# Altium schematic symbol library conn_header_1.27mm_st.SchLib: 116 symbols
Pins are listed as number, name and electrical type; pins without a type are passive.

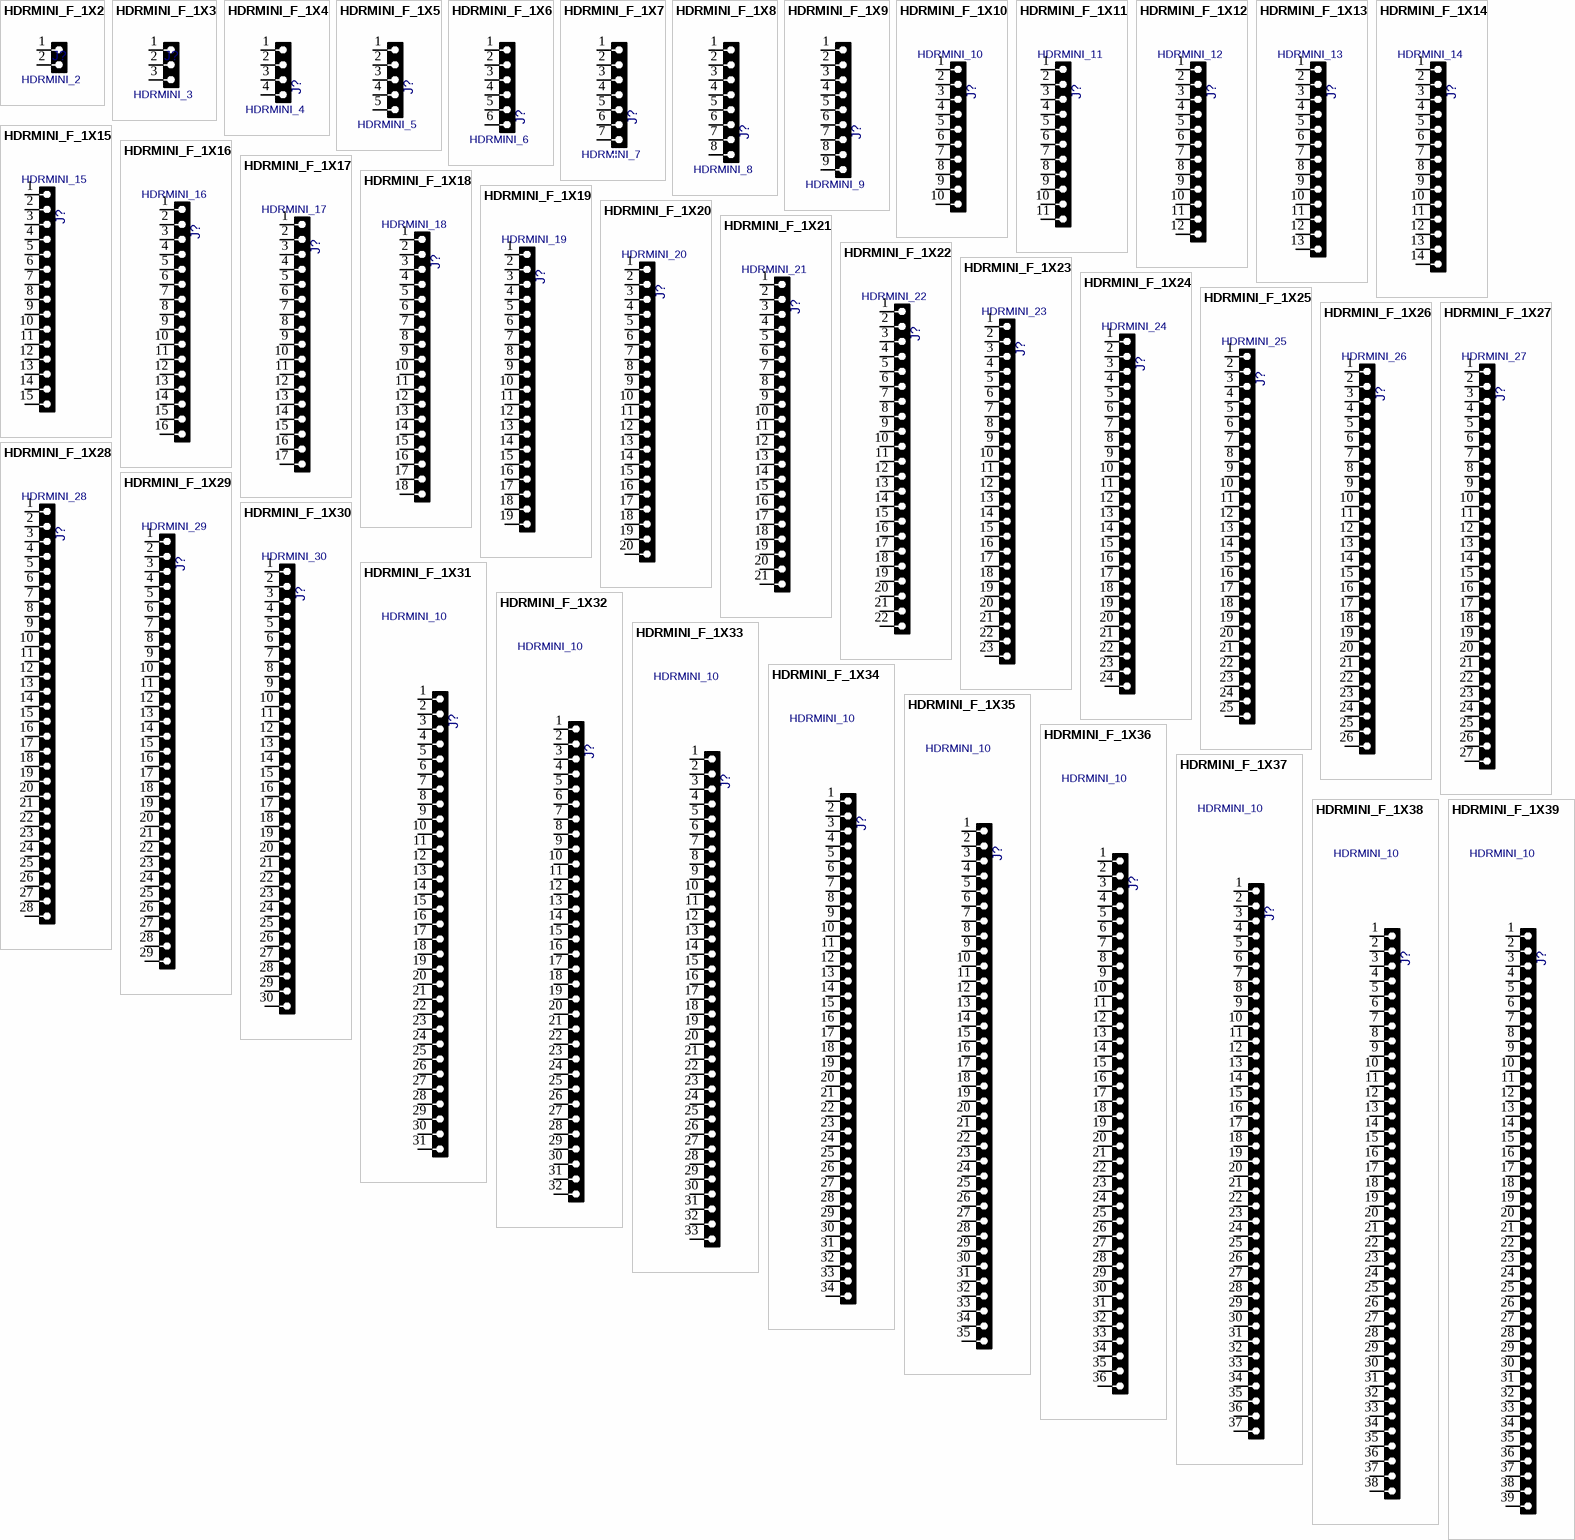
[diagram p0: symbols HDRMINI_F_1X2 to HDRMINI_F_1X39]

## HDRMINI_F_1X2
designator J?, comment HDRMINI_2
CONN, HEADER, Female, pitch: 1.27mm, 2POS; VALUE: HDRMINI_2
footprint HDRMINI_F_1X2 (mini header (50mil pitch))
pins: 1, 2

## HDRMINI_F_1X3
designator J?, comment HDRMINI_3
CONN, HEADER, Female, pitch: 1.27mm, 3POS; VALUE: HDRMINI_3
footprint HDRMINI_F_1X3 (mini header (50mil pitch))
pins: 1, 2, 3

## HDRMINI_F_1X4
designator J?, comment value HDRMINI_4  (hidden comment: HDR1X4)
CONN, HEADER, Female, pitch: 1.27mm, 4POS
footprint HDRMINI_F_1X4 (mini header (50mil pitch))
pins: 1, 2, 3, 4

## HDRMINI_F_1X5
designator J?, comment value HDRMINI_5  (hidden comment: HDR1X5)
CONN, HEADER, Female, pitch: 1.27mm, 5POS
footprint HDRMINI_F_1X5 (mini header (50mil pitch))
pins: 1, 2, 3, 4, 5

## HDRMINI_F_1X6
designator J?, comment value HDRMINI_6  (hidden comment: HDR1X6)
CONN, HEADER, Female, pitch: 1.27mm, 6POS
footprint HDRMINI_F_1X6 (mini header (50mil pitch))
pins: 1, 2, 3, 4, 5, 6

## HDRMINI_F_1X7
designator J?, comment value HDRMINI_7  (hidden comment: HDR1X7)
CONN, HEADER, Female, pitch: 1.27mm, 7POS
footprint HDRMINI_F_1X7 (mini header (50mil pitch))
pins: 1, 2, 3, 4, 5, 6, 7

## HDRMINI_F_1X8
designator J?, comment value HDRMINI_8  (hidden comment: HDR1X8)
CONN, HEADER, Female, pitch: 1.27mm, 8POS
footprint HDRMINI_F_1X8 (mini header (50mil pitch))
pins: 1, 2, 3, 4, 5, 6, 7, 8

## HDRMINI_F_1X9
designator J?, comment value HDRMINI_9  (hidden comment: HDR1X9)
CONN, HEADER, Female, pitch: 1.27mm, 9POS
footprint HDRMINI_F_1X9 (mini header (50mil pitch))
pins: 1, 2, 3, 4, 5, 6, 7, 8, 9

## HDRMINI_F_1X10
designator J?, comment value HDRMINI_10  (hidden comment: HDR1X10)
CONN, HEADER, Female, pitch: 1.27mm
footprint HDRMINI_F_1X10 (mini header (50mil pitch))
pins: 1, 2, 3, 4, 5, 6, 7, 8, 9, 10

## HDRMINI_F_1X11
designator J?, comment value HDRMINI_11  (hidden comment: HDR1X10)
CONN, HEADER, Female, pitch: 1.27mm
footprint HDRMINI_F_1X11 (mini header (50mil pitch))
pins: 1, 2, 3, 4, 5, 6, 7, 8, 9, 10, 11

## HDRMINI_F_1X12
designator J?, comment value HDRMINI_12  (hidden comment: HDR1X10)
CONN, HEADER, Female, pitch: 1.27mm
footprint HDRMINI_F_1X12 (mini header (50mil pitch))
pins: 1, 2, 3, 4, 5, 6, 7, 8, 9, 10, 11, 12

## HDRMINI_F_1X13
designator J?, comment value HDRMINI_13  (hidden comment: HDR1X10)
CONN, HEADER, Female, pitch: 1.27mm
footprint HDRMINI_F_1X13 (mini header (50mil pitch))
pins: 1, 2, 3, 4, 5, 6, 7, 8, 9, 10, 11, 12, 13

## HDRMINI_F_1X14
designator J?, comment value HDRMINI_14  (hidden comment: HDR1X10)
CONN, HEADER, Female, pitch: 1.27mm
footprint HDRMINI_F_1X14 (mini header (50mil pitch))
pins: 1, 2, 3, 4, 5, 6, 7, 8, 9, 10, 11, 12, 13, 14

## HDRMINI_F_1X15
designator J?, comment value HDRMINI_15  (hidden comment: HDR1X10)
CONN, HEADER, Female, pitch: 1.27mm
footprint HDRMINI_F_1X15 (mini header (50mil pitch))
pins: 1, 2, 3, 4, 5, 6, 7, 8, 9, 10, 11, 12, 13, 14, 15

## HDRMINI_F_1X16
designator J?, comment value HDRMINI_16  (hidden comment: HDR1X10)
CONN, HEADER, Female, pitch: 1.27mm
footprint HDRMINI_F_1X16 (mini header (50mil pitch))
pins: 1, 2, 3, 4, 5, 6, 7, 8, 9, 10, 11, 12, 13, 14, 15, 16

## HDRMINI_F_1X17
designator J?, comment value HDRMINI_17  (hidden comment: HDR1X10)
CONN, HEADER, Female, pitch: 1.27mm
footprint HDRMINI_F_1X17 (mini header (50mil pitch))
pins: 1, 2, 3, 4, 5, 6, 7, 8, 9, 10, 11, 12, 13, 14, 15, 16, 17

## HDRMINI_F_1X18
designator J?, comment value HDRMINI_18  (hidden comment: HDR1X10)
CONN, HEADER, Female, pitch: 1.27mm
footprint HDRMINI_F_1X18 (mini header (50mil pitch))
pins: 1, 2, 3, 4, 5, 6, 7, 8, 9, 10, 11, 12, 13, 14, 15, 16, 17, 18

## HDRMINI_F_1X19
designator J?, comment value HDRMINI_19  (hidden comment: HDR1X10)
CONN, HEADER, Female, pitch: 1.27mm
footprint HDRMINI_F_1X19 (mini header (50mil pitch))
pins: 1, 2, 3, 4, 5, 6, 7, 8, 9, 10, 11, 12, 13, 14, 15, 16, 17, 18, 19

## HDRMINI_F_1X20
designator J?, comment value HDRMINI_20  (hidden comment: HDR1X10)
CONN, HEADER, Female, pitch: 1.27mm
footprint HDRMINI_F_1X20 (mini header (50mil pitch))
pins: 1, 2, 3, 4, 5, 6, 7, 8, 9, 10, 11, 12, 13, 14, 15, 16, 17, 18, 19, 20

## HDRMINI_F_1X21
designator J?, comment value HDRMINI_21  (hidden comment: HDR1X10)
CONN, HEADER, Female, pitch: 1.27mm
footprint HDRMINI_F_1X21 (mini header (50mil pitch))
pins: 1, 2, 3, 4, 5, 6, 7, 8, 9, 10, 11, 12, 13, 14, 15, 16, 17, 18, 19, 20, 21

## HDRMINI_F_1X22
designator J?, comment value HDRMINI_22  (hidden comment: HDR1X10)
CONN, HEADER, Female, pitch: 1.27mm
footprint HDRMINI_F_1X22 (mini header (50mil pitch))
pins: 1, 2, 3, 4, 5, 6, 7, 8, 9, 10, 11, 12, 13, 14, 15, 16, 17, 18, 19, 20, 21, 22

## HDRMINI_F_1X23
designator J?, comment value HDRMINI_23  (hidden comment: HDR1X10)
CONN, HEADER, Female, pitch: 1.27mm
footprint HDRMINI_F_1X23 (mini header (50mil pitch))
pins: 1, 2, 3, 4, 5, 6, 7, 8, 9, 10, 11, 12, 13, 14, 15, 16, 17, 18, 19, 20, 21, 22, 23

## HDRMINI_F_1X24
designator J?, comment value HDRMINI_24  (hidden comment: HDR1X10)
CONN, HEADER, Female, pitch: 1.27mm
footprint HDRMINI_F_1X24 (mini header (50mil pitch))
pins: 1, 2, 3, 4, 5, 6, 7, 8, 9, 10, 11, 12, 13, 14, 15, 16, 17, 18, 19, 20, 21, 22, 23, 24

## HDRMINI_F_1X25
designator J?, comment value HDRMINI_25  (hidden comment: HDR1X10)
CONN, HEADER, Female, pitch: 1.27mm
footprint HDRMINI_F_1X25 (mini header (50mil pitch))
pins: 1, 2, 3, 4, 5, 6, 7, 8, 9, 10, 11, 12, 13, 14, 15, 16, 17, 18, 19, 20, 21, 22, 23, 24, 25

## HDRMINI_F_1X26
designator J?, comment value HDRMINI_26  (hidden comment: HDR1X10)
CONN, HEADER, Female, pitch: 1.27mm
footprint HDRMINI_F_1X26 (mini header (50mil pitch))
pins: 1, 2, 3, 4, 5, 6, 7, 8, 9, 10, 11, 12, 13, 14, 15, 16, 17, 18, 19, 20, 21, 22, 23, 24, 25, 26

## HDRMINI_F_1X27
designator J?, comment value HDRMINI_27  (hidden comment: HDR1X10)
CONN, HEADER, Female, pitch: 1.27mm
footprint HDRMINI_F_1X27 (mini header (50mil pitch))
pins: 1, 2, 3, 4, 5, 6, 7, 8, 9, 10, 11, 12, 13, 14, 15, 16, 17, 18, 19, 20, 21, 22, 23, 24, 25, 26, 27

## HDRMINI_F_1X28
designator J?, comment value HDRMINI_28  (hidden comment: HDR1X10)
CONN, HEADER, Female, pitch: 1.27mm
footprint HDRMINI_F_1X28 (mini header (50mil pitch))
pins: 1, 2, 3, 4, 5, 6, 7, 8, 9, 10, 11, 12, 13, 14, 15, 16, 17, 18, 19, 20, 21, 22, 23, 24, 25, 26, 27, 28

## HDRMINI_F_1X29
designator J?, comment value HDRMINI_29  (hidden comment: HDR1X10)
CONN, HEADER, Female, pitch: 1.27mm
footprint HDRMINI_F_1X29 (mini header (50mil pitch))
pins: 1, 2, 3, 4, 5, 6, 7, 8, 9, 10, 11, 12, 13, 14, 15, 16, 17, 18, 19, 20, 21, 22, 23, 24, 25, 26, 27, 28, 29

## HDRMINI_F_1X30
designator J?, comment value HDRMINI_30  (hidden comment: HDR1X10)
CONN, HEADER, Female, pitch: 1.27mm
footprint HDRMINI_F_1X30 (mini header (50mil pitch))
pins: 1, 2, 3, 4, 5, 6, 7, 8, 9, 10, 11, 12, 13, 14, 15, 16, 17, 18, 19, 20, 21, 22, 23, 24, 25, 26, 27, 28, 29, 30

## HDRMINI_F_1X31
designator J?, comment value HDRMINI_10  (hidden comment: HDR1X10)
CONN, HEADER, Female, pitch: 1.27mm
footprint HDRMINI_F_1X31 (mini header (50mil pitch))
pins: 1, 2, 3, 4, 5, 6, 7, 8, 9, 10, 11, 12, 13, 14, 15, 16, 17, 18, 19, 20, 21, 22, 23, 24, 25, 26, 27, 28, 29, 30, 31

## HDRMINI_F_1X32
designator J?, comment value HDRMINI_10  (hidden comment: HDR1X10)
CONN, HEADER, Female, pitch: 1.27mm
footprint HDRMINI_F_1X32 (mini header (50mil pitch))
pins: 1, 2, 3, 4, 5, 6, 7, 8, 9, 10, 11, 12, 13, 14, 15, 16, 17, 18, 19, 20, 21, 22, 23, 24, 25, 26, 27, 28, 29, 30, 31, 32

## HDRMINI_F_1X33
designator J?, comment value HDRMINI_10  (hidden comment: HDR1X10)
CONN, HEADER, Female, pitch: 1.27mm
footprint HDRMINI_F_1X33 (mini header (50mil pitch))
pins: 1, 2, 3, 4, 5, 6, 7, 8, 9, 10, 11, 12, 13, 14, 15, 16, 17, 18, 19, 20, 21, 22, 23, 24, 25, 26, 27, 28, 29, 30, 31, 32, 33

## HDRMINI_F_1X34
designator J?, comment value HDRMINI_10  (hidden comment: HDR1X10)
CONN, HEADER, Female, pitch: 1.27mm
footprint HDRMINI_F_1X34 (mini header (50mil pitch))
pins: 1, 2, 3, 4, 5, 6, 7, 8, 9, 10, 11, 12, 13, 14, 15, 16, 17, 18, 19, 20, 21, 22, 23, 24, 25, 26, 27, 28, 29, 30, 31, 32, 33, 34

## HDRMINI_F_1X35
designator J?, comment value HDRMINI_10  (hidden comment: HDR1X10)
CONN, HEADER, Female, pitch: 1.27mm
footprint HDRMINI_F_1X35 (mini header (50mil pitch))
pins: 1, 2, 3, 4, 5, 6, 7, 8, 9, 10, 11, 12, 13, 14, 15, 16, 17, 18, 19, 20, 21, 22, 23, 24, 25, 26, 27, 28, 29, 30, 31, 32, 33, 34, 35

## HDRMINI_F_1X36
designator J?, comment value HDRMINI_10  (hidden comment: HDR1X10)
CONN, HEADER, Female, pitch: 1.27mm
footprint HDRMINI_F_1X36 (mini header (50mil pitch))
pins: 1, 2, 3, 4, 5, 6, 7, 8, 9, 10, 11, 12, 13, 14, 15, 16, 17, 18, 19, 20, 21, 22, 23, 24, 25, 26, 27, 28, 29, 30, 31, 32, 33, 34, 35, 36

## HDRMINI_F_1X37
designator J?, comment value HDRMINI_10  (hidden comment: HDR1X10)
CONN, HEADER, Female, pitch: 1.27mm
footprint HDRMINI_F_1X37 (mini header (50mil pitch))
pins: 1, 2, 3, 4, 5, 6, 7, 8, 9, 10, 11, 12, 13, 14, 15, 16, 17, 18, 19, 20, 21, 22, 23, 24, 25, 26, 27, 28, 29, 30, 31, 32, 33, 34, 35, 36, 37

## HDRMINI_F_1X38
designator J?, comment value HDRMINI_10  (hidden comment: HDR1X10)
CONN, HEADER, Female, pitch: 1.27mm
footprint HDRMINI_F_1X38 (mini header (50mil pitch))
pins: 1, 2, 3, 4, 5, 6, 7, 8, 9, 10, 11, 12, 13, 14, 15, 16, 17, 18, 19, 20, 21, 22, 23, 24, 25, 26, 27, 28, 29, 30, 31, 32, 33, 34, 35, 36, 37, 38

## HDRMINI_F_1X39
designator J?, comment value HDRMINI_10  (hidden comment: HDR1X10)
CONN, HEADER, Female, pitch: 1.27mm
footprint HDRMINI_F_1X39 (mini header (50mil pitch))
pins: 1, 2, 3, 4, 5, 6, 7, 8, 9, 10, 11, 12, 13, 14, 15, 16, 17, 18, 19, 20, 21, 22, 23, 24, 25, 26, 27, 28, 29, 30, 31, 32, 33, 34, 35, 36, 37, 38, 39

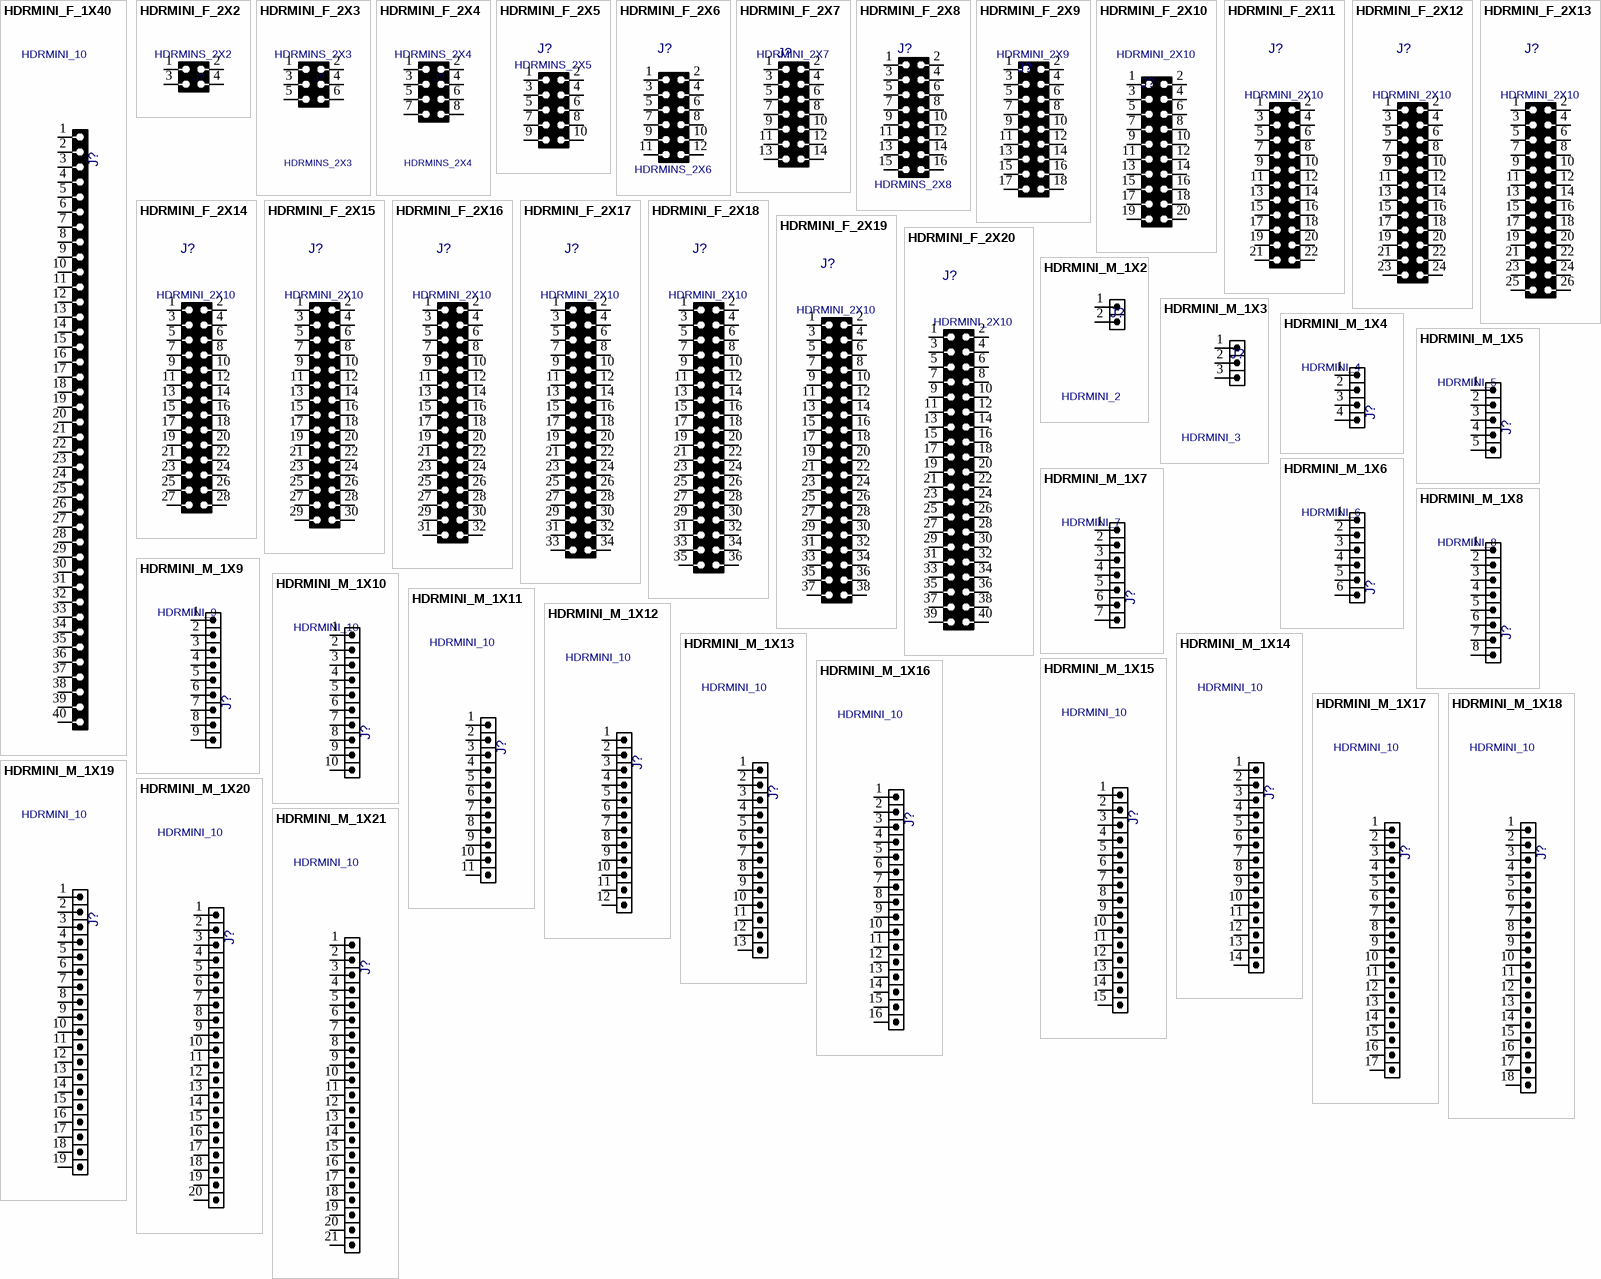
[diagram p1: symbols HDRMINI_F_1X40 to HDRMINI_M_1X21]

## HDRMINI_F_1X40
designator J?, comment value HDRMINI_10  (hidden comment: HDR1X10)
CONN, HEADER, Male, pitch: 1.27mm
footprint HDRMINI_F_1X40 (mini header (50mil pitch))
pins: 1, 2, 3, 4, 5, 6, 7, 8, 9, 10, 11, 12, 13, 14, 15, 16, 17, 18, 19, 20, 21, 22, 23, 24, 25, 26, 27, 28, 29, 30, 31, 32, 33, 34, 35, 36, 37, 38, 39, 40

## HDRMINI_F_2X2
designator J?, comment HDRMINS_2X2
CONN, HEADER, Female, pitch: 1.27mm,; MANF_P#: MANF_PART#; MANF: MANF; VALUE: HDRMINS_2X2
footprint HDRMINI_F_2X2 (mini header (50mil pitch))
pins: 1, 2, 3, 4

## HDRMINI_F_2X3
designator J?, comment HDRMINS_2X3
CONN, HEADER, Female, pitch: 1.27mm,; MANF_P#: MANF_PART#; MANF: MANF; VALUE: HDRMINS_2X3
footprint HDRMINI_F_2X3 (mini header (50mil pitch))
pins: 1, 2, 3, 4, 5, 6

## HDRMINI_F_2X4
designator J?, comment HDRMINS_2X4
CONN, HEADER, Female, pitch: 1.27mm,; MANF_P#: MANF_PART#; MANF: MANF; VALUE: HDRMINS_2X4
footprint HDRMINI_F_2X4 (mini header (50mil pitch))
pins: 1, 2, 3, 4, 5, 6, 7, 8

## HDRMINI_F_2X5
designator J?, comment HDRMINS_2X5
CONN, HEADER, Female, pitch: 1.27mm,; VALUE: HDRMINS_2X5
footprint HDRMINI_F_2X5 (mini header (50mil pitch))
pins: 1, 2, 3, 4, 5, 6, 7, 8, 9, 10

## HDRMINI_F_2X6
designator J?, comment HDRMINS_2X6
CONN, HEADER, Female, pitch: 1.27mm, 12POS, SMD; VALUE: HDRMINS_2X6
footprint HDRMINI_F_2X6 (mini header (50mil pitch))
pins: 1, 2, 3, 4, 5, 6, 7, 8, 9, 10, 11, 12

## HDRMINI_F_2X7
designator J?, comment HDRMINI_2X7
CONN, HEADER, Female, pitch: 1.27mm,; VALUE: HDRMINI_2X7
footprint HDRMINI_F_2X7 (mini header (50mil pitch))
pins: 1, 2, 3, 4, 5, 6, 7, 8, 9, 10, 11, 12, 13, 14

## HDRMINI_F_2X8
designator J?, comment HDRMINS_2X8
CONN, HEADER, Female, pitch: 1.27mm, 16POS, SMD; VALUE: HDRMINS_2X8
footprint HDRMINI_F_2X8 (mini header (50mil pitch))
pins: 1, 2, 3, 4, 5, 6, 7, 8, 9, 10, 11, 12, 13, 14, 15, 16

## HDRMINI_F_2X9
designator J?, comment HDRMINI_2X9
CONN, HEADER, Female, pitch: 1.27mm,; VALUE: HDRMINI_2X9
footprint HDRMINI_F_2X9 (mini header (50mil pitch))
pins: 1, 2, 3, 4, 5, 6, 7, 8, 9, 10, 11, 12, 13, 14, 15, 16, 17, 18

## HDRMINI_F_2X10
designator J?, comment HDRMINI_2X10
CONN, HEADER, Female, pitch: 1.27mm,; VALUE: HDRMINI_2X10
footprint HDRMINI_F_2X10 (FCI Minitek127® BTB, HEADER UNSHROUDED, 20   Part Number:  20021311-00020T4LF)
pins: 1, 2, 3, 4, 5, 6, 7, 8, 9, 10, 11, 12, 13, 14, 15, 16, 17, 18, 19, 20

## HDRMINI_F_2X11
designator J?, comment HDRMINI_2X10
CONN, HEADER, Female, pitch: 1.27mm,; VALUE: HDRMINI_2X10
footprint HDRMINI_F_2X11 (mini header (50mil pitch))
pins: 1, 2, 3, 4, 5, 6, 7, 8, 9, 10, 11, 12, 13, 14, 15, 16, 17, 18, 19, 20, 21, 22

## HDRMINI_F_2X12
designator J?, comment HDRMINI_2X10
CONN, HEADER, Female, pitch: 1.27mm,; VALUE: HDRMINI_2X10
footprint HDRMINI_F_2X12 (mini header (50mil pitch))
pins: 1, 2, 3, 4, 5, 6, 7, 8, 9, 10, 11, 12, 13, 14, 15, 16, 17, 18, 19, 20, 21, 22, 23, 24

## HDRMINI_F_2X13
designator J?, comment HDRMINI_2X10
CONN, HEADER, Female, pitch: 1.27mm,; VALUE: HDRMINI_2X10
footprint HDRMINI_F_2X13 (mini header (50mil pitch))
pins: 1, 2, 3, 4, 5, 6, 7, 8, 9, 10, 11, 12, 13, 14, 15, 16, 17, 18, 19, 20, 21, 22, 23, 24, 25, 26

## HDRMINI_F_2X14
designator J?, comment HDRMINI_2X10
CONN, HEADER, Female, pitch: 1.27mm,; VALUE: HDRMINI_2X10
footprint HDRMINI_F_2X14 (mini header (50mil pitch))
pins: 1, 2, 3, 4, 5, 6, 7, 8, 9, 10, 11, 12, 13, 14, 15, 16, 17, 18, 19, 20, 21, 22, 23, 24, 25, 26, 27, 28

## HDRMINI_F_2X15
designator J?, comment HDRMINI_2X10
CONN, HEADER, Female, pitch: 1.27mm,; VALUE: HDRMINI_2X10
footprint HDRMINI_F_2X15 (mini header (50mil pitch))
pins: 1, 2, 3, 4, 5, 6, 7, 8, 9, 10, 11, 12, 13, 14, 15, 16, 17, 18, 19, 20, 21, 22, 23, 24, 25, 26, 27, 28, 29, 30

## HDRMINI_F_2X16
designator J?, comment HDRMINI_2X10
CONN, HEADER, Female, pitch: 1.27mm,; VALUE: HDRMINI_2X10
footprint HDRMINI_F_2X16 (mini header (50mil pitch))
pins: 1, 2, 3, 4, 5, 6, 7, 8, 9, 10, 11, 12, 13, 14, 15, 16, 17, 18, 19, 20, 21, 22, 23, 24, 25, 26, 27, 28, 29, 30, 31, 32

## HDRMINI_F_2X17
designator J?, comment HDRMINI_2X10
CONN, HEADER, Female, pitch: 1.27mm,; VALUE: HDRMINI_2X10
footprint HDRMINI_F_2X17 (mini header (50mil pitch))
pins: 1, 2, 3, 4, 5, 6, 7, 8, 9, 10, 11, 12, 13, 14, 15, 16, 17, 18, 19, 20, 21, 22, 23, 24, 25, 26, 27, 28, 29, 30, 31, 32, 33, 34

## HDRMINI_F_2X18
designator J?, comment HDRMINI_2X10
CONN, HEADER, Female, pitch: 1.27mm,; VALUE: HDRMINI_2X10
footprint HDRMINI_F_2X18 (mini header (50mil pitch))
pins: 1, 2, 3, 4, 5, 6, 7, 8, 9, 10, 11, 12, 13, 14, 15, 16, 17, 18, 19, 20, 21, 22, 23, 24, 25, 26, 27, 28, 29, 30, 31, 32, 33, 34, 35, 36

## HDRMINI_F_2X19
designator J?, comment HDRMINI_2X10
CONN, HEADER, Female, pitch: 1.27mm,; VALUE: HDRMINI_2X10
footprint HDRMINI_F_2X19 (mini header (50mil pitch))
pins: 1, 2, 3, 4, 5, 6, 7, 8, 9, 10, 11, 12, 13, 14, 15, 16, 17, 18, 19, 20, 21, 22, 23, 24, 25, 26, 27, 28, 29, 30, 31, 32, 33, 34, 35, 36, 37, 38

## HDRMINI_F_2X20
designator J?, comment HDRMINI_2X10
CONN, HEADER, Female, pitch: 1.27mm,; VALUE: HDRMINI_2X10
footprint HDRMINI_F_2X20 (mini header (50mil pitch))
pins: 1, 2, 3, 4, 5, 6, 7, 8, 9, 10, 11, 12, 13, 14, 15, 16, 17, 18, 19, 20, 21, 22, 23, 24, 25, 26, 27, 28, 29, 30, 31, 32, 33, 34, 35, 36, 37, 38, 39, 40

## HDRMINI_M_1X2
designator J?, comment HDRMINI_2
CONN, HEADER, Male, pitch: 1.27mm, 2POS; VALUE: HDRMINI_2
footprint HDRMINI_M_1X2 (mini header (50mil pitch))
pins: 1, 2

## HDRMINI_M_1X3
designator J?, comment HDRMINI_3
CONN, HEADER, Male, pitch: 1.27mm, 3POS; VALUE: HDRMINI_3
footprint HDRMINI_M_1X3 (mini header (50mil pitch))
pins: 1, 2, 3

## HDRMINI_M_1X4
designator J?, comment value HDRMINI_4  (hidden comment: HDR1X4)
CONN, HEADER, Male, pitch: 1.27mm, 4POS
footprint HDRMINI_M_1X4 (mini header (50mil pitch))
pins: 1, 2, 3, 4

## HDRMINI_M_1X5
designator J?, comment value HDRMINI_5  (hidden comment: HDR1X5)
CONN, HEADER, Male, pitch: 1.27mm, 5POS
footprint HDRMINI_M_1X5 (mini header (50mil pitch))
pins: 1, 2, 3, 4, 5

## HDRMINI_M_1X6
designator J?, comment value HDRMINI_6  (hidden comment: HDR1X6)
CONN, HEADER, Male, pitch: 1.27mm, 6POS
footprint HDRMINI_M_1X6 (mini header (50mil pitch))
pins: 1, 2, 3, 4, 5, 6

## HDRMINI_M_1X7
designator J?, comment value HDRMINI_7  (hidden comment: HDR1X7)
CONN, HEADER, Male, pitch: 1.27mm, 7POS
footprint HDRMINI_M_1X7 (mini header (50mil pitch))
pins: 1, 2, 3, 4, 5, 6, 7

## HDRMINI_M_1X8
designator J?, comment value HDRMINI_8  (hidden comment: HDR1X8)
CONN, HEADER, Male, pitch: 1.27mm, 8POS
footprint HDRMINI_M_1X8 (mini header (50mil pitch))
pins: 1, 2, 3, 4, 5, 6, 7, 8

## HDRMINI_M_1X9
designator J?, comment value HDRMINI_9  (hidden comment: HDR1X9)
CONN, HEADER, Male, pitch: 1.27mm, 9POS
footprint HDRMINI_M_1X9 (mini header (50mil pitch))
pins: 1, 2, 3, 4, 5, 6, 7, 8, 9

## HDRMINI_M_1X10
designator J?, comment value HDRMINI_10  (hidden comment: HDR1X10)
CONN, HEADER, Male, pitch: 1.27mm, 10POS
footprint HDRMINI_M_1X10 (mini header (50mil pitch))
pins: 1, 2, 3, 4, 5, 6, 7, 8, 9, 10

## HDRMINI_M_1X11
designator J?, comment value HDRMINI_10  (hidden comment: HDR1X10)
CONN, HEADER, Male, pitch: 1.27mm
footprint HDRMINI_M_1X11 (mini header (50mil pitch))
pins: 1, 2, 3, 4, 5, 6, 7, 8, 9, 10, 11

## HDRMINI_M_1X12
designator J?, comment value HDRMINI_10  (hidden comment: HDR1X10)
CONN, HEADER, Male, pitch: 1.27mm
footprint HDRMINI_M_1X12 (mini header (50mil pitch))
pins: 1, 2, 3, 4, 5, 6, 7, 8, 9, 10, 11, 12

## HDRMINI_M_1X13
designator J?, comment value HDRMINI_10  (hidden comment: HDR1X10)
CONN, HEADER, Male, pitch: 1.27mm
footprint HDRMINI_M_1X13 (mini header (50mil pitch))
pins: 1, 2, 3, 4, 5, 6, 7, 8, 9, 10, 11, 12, 13

## HDRMINI_M_1X14
designator J?, comment value HDRMINI_10  (hidden comment: HDR1X10)
CONN, HEADER, Male, pitch: 1.27mm
footprint HDRMINI_M_1X14 (mini header (50mil pitch))
pins: 1, 2, 3, 4, 5, 6, 7, 8, 9, 10, 11, 12, 13, 14

## HDRMINI_M_1X15
designator J?, comment value HDRMINI_10  (hidden comment: HDR1X10)
CONN, HEADER, Male, pitch: 1.27mm
footprint HDRMINI_M_1X15 (mini header (50mil pitch))
pins: 1, 2, 3, 4, 5, 6, 7, 8, 9, 10, 11, 12, 13, 14, 15

## HDRMINI_M_1X16
designator J?, comment value HDRMINI_10  (hidden comment: HDR1X10)
CONN, HEADER, Male, pitch: 1.27mm
footprint HDRMINI_M_1X16 (mini header (50mil pitch))
pins: 1, 2, 3, 4, 5, 6, 7, 8, 9, 10, 11, 12, 13, 14, 15, 16

## HDRMINI_M_1X17
designator J?, comment value HDRMINI_10  (hidden comment: HDR1X10)
CONN, HEADER, Male, pitch: 1.27mm
footprint HDRMINI_M_1X17 (mini header (50mil pitch))
pins: 1, 2, 3, 4, 5, 6, 7, 8, 9, 10, 11, 12, 13, 14, 15, 16, 17

## HDRMINI_M_1X18
designator J?, comment value HDRMINI_10  (hidden comment: HDR1X10)
CONN, HEADER, Male, pitch: 1.27mm
footprint HDRMINI_M_1X18 (mini header (50mil pitch))
pins: 1, 2, 3, 4, 5, 6, 7, 8, 9, 10, 11, 12, 13, 14, 15, 16, 17, 18

## HDRMINI_M_1X19
designator J?, comment value HDRMINI_10  (hidden comment: HDR1X10)
CONN, HEADER, Male, pitch: 1.27mm
footprint HDRMINI_M_1X19 (mini header (50mil pitch))
pins: 1, 2, 3, 4, 5, 6, 7, 8, 9, 10, 11, 12, 13, 14, 15, 16, 17, 18, 19

## HDRMINI_M_1X20
designator J?, comment value HDRMINI_10  (hidden comment: HDR1X10)
CONN, HEADER, Male, pitch: 1.27mm
footprint HDRMINI_M_1X20 (mini header (50mil pitch))
pins: 1, 2, 3, 4, 5, 6, 7, 8, 9, 10, 11, 12, 13, 14, 15, 16, 17, 18, 19, 20

## HDRMINI_M_1X21
designator J?, comment value HDRMINI_10  (hidden comment: HDR1X10)
CONN, HEADER, Male, pitch: 1.27mm
footprint HDRMINI_M_1X21 (mini header (50mil pitch))
pins: 1, 2, 3, 4, 5, 6, 7, 8, 9, 10, 11, 12, 13, 14, 15, 16, 17, 18, 19, 20, 21

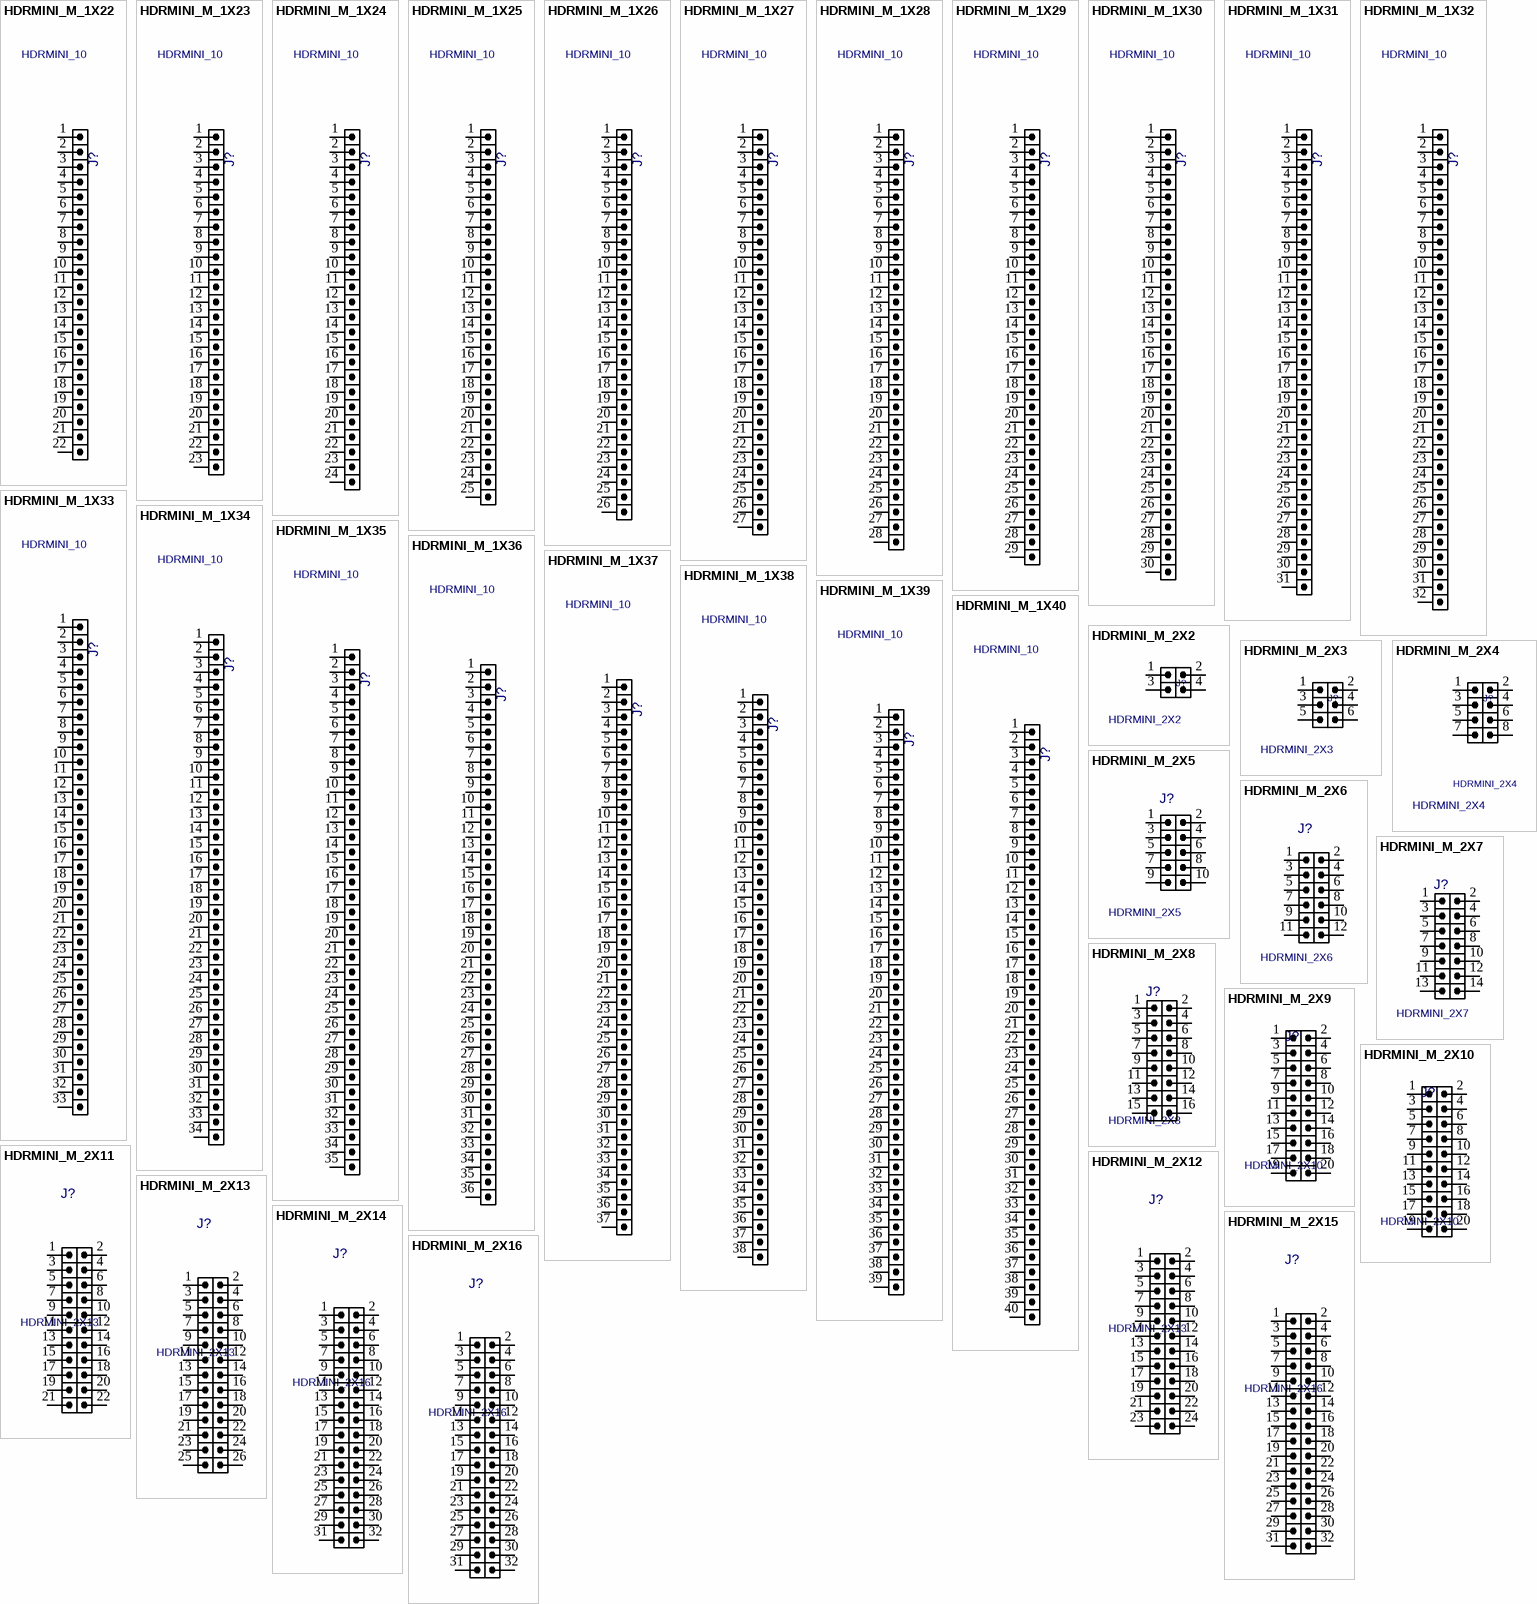
[diagram p2: symbols HDRMINI_M_1X22 to HDRMINI_M_2X16]

## HDRMINI_M_1X22
designator J?, comment value HDRMINI_10  (hidden comment: HDR1X10)
CONN, HEADER, Male, pitch: 1.27mm
footprint HDRMINI_M_1X22 (mini header (50mil pitch))
pins: 1, 2, 3, 4, 5, 6, 7, 8, 9, 10, 11, 12, 13, 14, 15, 16, 17, 18, 19, 20, 21, 22

## HDRMINI_M_1X23
designator J?, comment value HDRMINI_10  (hidden comment: HDR1X10)
CONN, HEADER, Male, pitch: 1.27mm
footprint HDRMINI_M_1X23 (mini header (50mil pitch))
pins: 1, 2, 3, 4, 5, 6, 7, 8, 9, 10, 11, 12, 13, 14, 15, 16, 17, 18, 19, 20, 21, 22, 23

## HDRMINI_M_1X24
designator J?, comment value HDRMINI_10  (hidden comment: HDR1X10)
CONN, HEADER, Male, pitch: 1.27mm
footprint HDRMINI_M_1X24 (mini header (50mil pitch))
pins: 1, 2, 3, 4, 5, 6, 7, 8, 9, 10, 11, 12, 13, 14, 15, 16, 17, 18, 19, 20, 21, 22, 23, 24

## HDRMINI_M_1X25
designator J?, comment value HDRMINI_10  (hidden comment: HDR1X10)
CONN, HEADER, Male, pitch: 1.27mm
footprint HDRMINI_M_1X25 (mini header (50mil pitch))
pins: 1, 2, 3, 4, 5, 6, 7, 8, 9, 10, 11, 12, 13, 14, 15, 16, 17, 18, 19, 20, 21, 22, 23, 24, 25

## HDRMINI_M_1X26
designator J?, comment value HDRMINI_10  (hidden comment: HDR1X10)
CONN, HEADER, Male, pitch: 1.27mm
footprint HDRMINI_M_1X26 (mini header (50mil pitch))
pins: 1, 2, 3, 4, 5, 6, 7, 8, 9, 10, 11, 12, 13, 14, 15, 16, 17, 18, 19, 20, 21, 22, 23, 24, 25, 26

## HDRMINI_M_1X27
designator J?, comment value HDRMINI_10  (hidden comment: HDR1X10)
CONN, HEADER, Male, pitch: 1.27mm
footprint HDRMINI_M_1X27 (mini header (50mil pitch))
pins: 1, 2, 3, 4, 5, 6, 7, 8, 9, 10, 11, 12, 13, 14, 15, 16, 17, 18, 19, 20, 21, 22, 23, 24, 25, 26, 27

## HDRMINI_M_1X28
designator J?, comment value HDRMINI_10  (hidden comment: HDR1X10)
CONN, HEADER, Male, pitch: 1.27mm
footprint HDRMINI_M_1X28 (mini header (50mil pitch))
pins: 1, 2, 3, 4, 5, 6, 7, 8, 9, 10, 11, 12, 13, 14, 15, 16, 17, 18, 19, 20, 21, 22, 23, 24, 25, 26, 27, 28

## HDRMINI_M_1X29
designator J?, comment value HDRMINI_10  (hidden comment: HDR1X10)
CONN, HEADER, Male, pitch: 1.27mm
footprint HDRMINI_M_1X29 (mini header (50mil pitch))
pins: 1, 2, 3, 4, 5, 6, 7, 8, 9, 10, 11, 12, 13, 14, 15, 16, 17, 18, 19, 20, 21, 22, 23, 24, 25, 26, 27, 28, 29

## HDRMINI_M_1X30
designator J?, comment value HDRMINI_10  (hidden comment: HDR1X10)
CONN, HEADER, Male, pitch: 1.27mm
footprint HDRMINI_M_1X30 (mini header (50mil pitch))
pins: 1, 2, 3, 4, 5, 6, 7, 8, 9, 10, 11, 12, 13, 14, 15, 16, 17, 18, 19, 20, 21, 22, 23, 24, 25, 26, 27, 28, 29, 30

## HDRMINI_M_1X31
designator J?, comment value HDRMINI_10  (hidden comment: HDR1X10)
CONN, HEADER, Male, pitch: 1.27mm
footprint HDRMINI_M_1X31 (mini header (50mil pitch))
pins: 1, 2, 3, 4, 5, 6, 7, 8, 9, 10, 11, 12, 13, 14, 15, 16, 17, 18, 19, 20, 21, 22, 23, 24, 25, 26, 27, 28, 29, 30, 31

## HDRMINI_M_1X32
designator J?, comment value HDRMINI_10  (hidden comment: HDR1X10)
CONN, HEADER, Male, pitch: 1.27mm
footprint HDRMINI_M_1X32 (mini header (50mil pitch))
pins: 1, 2, 3, 4, 5, 6, 7, 8, 9, 10, 11, 12, 13, 14, 15, 16, 17, 18, 19, 20, 21, 22, 23, 24, 25, 26, 27, 28, 29, 30, 31, 32

## HDRMINI_M_1X33
designator J?, comment value HDRMINI_10  (hidden comment: HDR1X10)
CONN, HEADER, Male, pitch: 1.27mm
footprint HDRMINI_M_1X33 (mini header (50mil pitch))
pins: 1, 2, 3, 4, 5, 6, 7, 8, 9, 10, 11, 12, 13, 14, 15, 16, 17, 18, 19, 20, 21, 22, 23, 24, 25, 26, 27, 28, 29, 30, 31, 32, 33

## HDRMINI_M_1X34
designator J?, comment value HDRMINI_10  (hidden comment: HDR1X10)
CONN, HEADER, Male, pitch: 1.27mm
footprint HDRMINI_M_1X34 (mini header (50mil pitch))
pins: 1, 2, 3, 4, 5, 6, 7, 8, 9, 10, 11, 12, 13, 14, 15, 16, 17, 18, 19, 20, 21, 22, 23, 24, 25, 26, 27, 28, 29, 30, 31, 32, 33, 34

## HDRMINI_M_1X35
designator J?, comment value HDRMINI_10  (hidden comment: HDR1X10)
CONN, HEADER, Male, pitch: 1.27mm
footprint HDRMINI_M_1X35 (mini header (50mil pitch))
pins: 1, 2, 3, 4, 5, 6, 7, 8, 9, 10, 11, 12, 13, 14, 15, 16, 17, 18, 19, 20, 21, 22, 23, 24, 25, 26, 27, 28, 29, 30, 31, 32, 33, 34, 35

## HDRMINI_M_1X36
designator J?, comment value HDRMINI_10  (hidden comment: HDR1X10)
CONN, HEADER, Male, pitch: 1.27mm
footprint HDRMINI_M_1X36 (mini header (50mil pitch))
pins: 1, 2, 3, 4, 5, 6, 7, 8, 9, 10, 11, 12, 13, 14, 15, 16, 17, 18, 19, 20, 21, 22, 23, 24, 25, 26, 27, 28, 29, 30, 31, 32, 33, 34, 35, 36

## HDRMINI_M_1X37
designator J?, comment value HDRMINI_10  (hidden comment: HDR1X10)
CONN, HEADER, Male, pitch: 1.27mm
footprint HDRMINI_M_1X37 (mini header (50mil pitch))
pins: 1, 2, 3, 4, 5, 6, 7, 8, 9, 10, 11, 12, 13, 14, 15, 16, 17, 18, 19, 20, 21, 22, 23, 24, 25, 26, 27, 28, 29, 30, 31, 32, 33, 34, 35, 36, 37

## HDRMINI_M_1X38
designator J?, comment value HDRMINI_10  (hidden comment: HDR1X10)
CONN, HEADER, Male, pitch: 1.27mm
footprint HDRMINI_M_1X38 (mini header (50mil pitch))
pins: 1, 2, 3, 4, 5, 6, 7, 8, 9, 10, 11, 12, 13, 14, 15, 16, 17, 18, 19, 20, 21, 22, 23, 24, 25, 26, 27, 28, 29, 30, 31, 32, 33, 34, 35, 36, 37, 38

## HDRMINI_M_1X39
designator J?, comment value HDRMINI_10  (hidden comment: HDR1X10)
CONN, HEADER, Male, pitch: 1.27mm
footprint HDRMINI_M_1X39 (mini header (50mil pitch))
pins: 1, 2, 3, 4, 5, 6, 7, 8, 9, 10, 11, 12, 13, 14, 15, 16, 17, 18, 19, 20, 21, 22, 23, 24, 25, 26, 27, 28, 29, 30, 31, 32, 33, 34, 35, 36, 37, 38, 39

## HDRMINI_M_1X40
designator J?, comment value HDRMINI_10  (hidden comment: HDR1X10)
CONN, HEADER, Male, pitch: 1.27mm
footprint HDRMINI_M_1X40 (mini header (50mil pitch))
pins: 1, 2, 3, 4, 5, 6, 7, 8, 9, 10, 11, 12, 13, 14, 15, 16, 17, 18, 19, 20, 21, 22, 23, 24, 25, 26, 27, 28, 29, 30, 31, 32, 33, 34, 35, 36, 37, 38, 39, 40

## HDRMINI_M_2X2
designator J?, comment HDRMINI_2X2
CONN, HEADER, Male, pitch: 1.27mm, 4POS, SMD; MANF_P#: 20021121-00004D4LF; MANF: FCI; VALUE: HDRMINI_2X2
footprint HDRMINI_M_2X2 (mini header (50mil pitch))
pins: 1, 2, 3, 4

## HDRMINI_M_2X3
designator J?, comment HDRMINI_2X3
CONN, HEADER, Male, pitch: 1.27mm, 6POS, SMD; MANF_P#: MANF_PART#; MANF: MANF; VALUE: HDRMINI_2X3
footprint HDRMINI_M_2X3 (mini header (50mil pitch))
pins: 1, 2, 3, 4, 5, 6

## HDRMINI_M_2X4
designator J?, comment HDRMINI_2X4
CONN, HEADER, Male, pitch: 1.27mm, 8POS, SMD; MANF_P#: 20021111-00008T4LF; MANF: FCI; VALUE: HDRMINI_2X4; PRICE: 0.5$
footprint HDRMINI_M_2X4 (mini header (50mil pitch))
pins: 1, 2, 3, 4, 5, 6, 7, 8

## HDRMINI_M_2X5
designator J?, comment HDRMINI_2X5
CONN, HEADER, Male, pitch: 1.27mm, 10POS, SMD; VALUE: HDRMINI_2X5
footprint HDRMINI_M_2X5 (mini header (50mil pitch))
pins: 1, 2, 3, 4, 5, 6, 7, 8, 9, 10

## HDRMINI_M_2X6
designator J?, comment HDRMINI_2X6
CONN, HEADER, Male, pitch: 1.27mm, 14POS, SMD; MANF: FCI; MANF_P#: 20021111-00012T4LF; VALUE: HDRMINI_2X6; PRICE: 0.8$
footprint HDRMINI_M_2X6 (mini header (50mil pitch))
pins: 1, 2, 3, 4, 5, 6, 7, 8, 9, 10, 11, 12

## HDRMINI_M_2X7
designator J?, comment HDRMINI_2X7
CONN, HEADER, Male, pitch: 1.27mm, 14POS, SMD; VALUE: HDRMINI_2X7
footprint HDRMINI_M_2X7 (mini header (50mil pitch))
pins: 1, 2, 3, 4, 5, 6, 7, 8, 9, 10, 11, 12, 13, 14

## HDRMINI_M_2X8
designator J?, comment HDRMINI_2X8
CONN, HEADER, Male, pitch: 1.27mm, 16POS; VALUE: HDRMINI_2X8
footprint HDRMINI_M_2X8 (mini header (50mil pitch))
pins: 1, 2, 3, 4, 5, 6, 7, 8, 9, 10, 11, 12, 13, 14, 15, 16

## HDRMINI_M_2X9
designator J?, comment HDRMINI_2X10
CONN, HEADER, Male, pitch: 1.27mm; VALUE: HDRMINI_2X10
footprint HDRMINI_M_2X9 (mini header (50mil pitch))
pins: 1, 2, 3, 4, 5, 6, 7, 8, 9, 10, 11, 12, 13, 14, 15, 16, 17, 18, 19, 20

## HDRMINI_M_2X10
designator J?, comment HDRMINI_2X10
CONN, HEADER, Male, pitch: 1.27mm, 20POS; VALUE: HDRMINI_2X10
footprint HDRMINI_M_2X10 (mini header (50mil pitch))
pins: 1, 2, 3, 4, 5, 6, 7, 8, 9, 10, 11, 12, 13, 14, 15, 16, 17, 18, 19, 20

## HDRMINI_M_2X11
designator J?, comment HDRMINI_2X13
CONN, HEADER, Male, pitch: 1.27mm,; VALUE: HDRMINI_2X13
footprint HDRMINI_M_2X11 (mini header (50mil pitch))
pins: 1, 2, 3, 4, 5, 6, 7, 8, 9, 10, 11, 12, 13, 14, 15, 16, 17, 18, 19, 20, 21, 22

## HDRMINI_M_2X12
designator J?, comment HDRMINI_2X13
CONN, HEADER, Male, pitch: 1.27mm; VALUE: HDRMINI_2X13
footprint HDRMINI_M_2X12 (mini header (50mil pitch))
pins: 1, 2, 3, 4, 5, 6, 7, 8, 9, 10, 11, 12, 13, 14, 15, 16, 17, 18, 19, 20, 21, 22, 23, 24

## HDRMINI_M_2X13
designator J?, comment HDRMINI_2X13
CONN, HEADER, Male, pitch: 1.27mm, 26POS; VALUE: HDRMINI_2X13
footprint HDRMINI_M_2X13 (mini header (50mil pitch))
pins: 1, 2, 3, 4, 5, 6, 7, 8, 9, 10, 11, 12, 13, 14, 15, 16, 17, 18, 19, 20, 21, 22, 23, 24, 25, 26

## HDRMINI_M_2X14
designator J?, comment HDRMINI_2X16
CONN, HEADER, Male, pitch: 1.27mm,; VALUE: HDRMINI_2X16
footprint HDRMINI_M_2X14 (mini header (50mil pitch))
pins: 1, 2, 3, 4, 5, 6, 7, 8, 9, 10, 11, 12, 13, 14, 15, 16, 17, 18, 19, 20, 21, 22, 23, 24, 25, 26, 27, 28, 29, 30, 31, 32

## HDRMINI_M_2X15
designator J?, comment HDRMINI_2X16
CONN, HEADER, Male, pitch: 1.27mm,; VALUE: HDRMINI_2X16
footprint HDRMINI_M_2X15 (mini header (50mil pitch))
pins: 1, 2, 3, 4, 5, 6, 7, 8, 9, 10, 11, 12, 13, 14, 15, 16, 17, 18, 19, 20, 21, 22, 23, 24, 25, 26, 27, 28, 29, 30, 31, 32

## HDRMINI_M_2X16
designator J?, comment HDRMINI_2X16
CONN, HEADER, Male, pitch: 1.27mm, 32POS; VALUE: HDRMINI_2X16
footprint HDRMINI_M_2X16 (mini header (50mil pitch))
pins: 1, 2, 3, 4, 5, 6, 7, 8, 9, 10, 11, 12, 13, 14, 15, 16, 17, 18, 19, 20, 21, 22, 23, 24, 25, 26, 27, 28, 29, 30, 31, 32

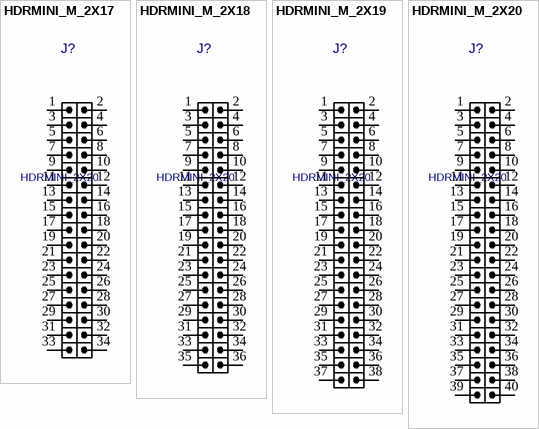
[diagram p3: symbols HDRMINI_M_2X17 to HDRMINI_M_2X20]

## HDRMINI_M_2X17
designator J?, comment HDRMINI_2X20
CONN, HEADER, Male, pitch: 1.27mm,; VALUE: HDRMINI_2X20
footprint HDRMINI_M_2X17 (mini header (50mil pitch))
pins: 1, 2, 3, 4, 5, 6, 7, 8, 9, 10, 11, 12, 13, 14, 15, 16, 17, 18, 19, 20, 21, 22, 23, 24, 25, 26, 27, 28, 29, 30, 31, 32, 33, 34

## HDRMINI_M_2X18
designator J?, comment HDRMINI_2X20
CONN, HEADER, Male, pitch: 1.27mm,; VALUE: HDRMINI_2X20
footprint HDRMINI_M_2X18 (mini header (50mil pitch))
pins: 1, 2, 3, 4, 5, 6, 7, 8, 9, 10, 11, 12, 13, 14, 15, 16, 17, 18, 19, 20, 21, 22, 23, 24, 25, 26, 27, 28, 29, 30, 31, 32, 33, 34, 35, 36

## HDRMINI_M_2X19
designator J?, comment HDRMINI_2X20
CONN, HEADER, Male, pitch: 1.27mm,; VALUE: HDRMINI_2X20
footprint HDRMINI_M_2X19 (mini header (50mil pitch))
pins: 1, 2, 3, 4, 5, 6, 7, 8, 9, 10, 11, 12, 13, 14, 15, 16, 17, 18, 19, 20, 21, 22, 23, 24, 25, 26, 27, 28, 29, 30, 31, 32, 33, 34, 35, 36, 37, 38

## HDRMINI_M_2X20
designator J?, comment HDRMINI_2X20
CONN, HEADER, Male, pitch: 1.27mm, 40POS; VALUE: HDRMINI_2X20
footprint HDRMINI_M_2X20 (mini header (50mil pitch))
pins: 1, 2, 3, 4, 5, 6, 7, 8, 9, 10, 11, 12, 13, 14, 15, 16, 17, 18, 19, 20, 21, 22, 23, 24, 25, 26, 27, 28, 29, 30, 31, 32, 33, 34, 35, 36, 37, 38, 39, 40